# Altium schematic symbol library USBLC6-4SC6.SchLib: 1 symbol
Pins are listed as number, name and electrical type; pins without a type are passive.

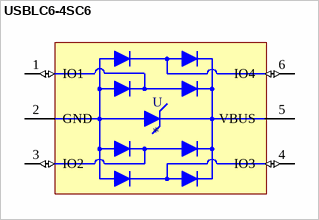
[diagram p0: symbol USBLC6-4SC6]

## USBLC6-4SC6
designator U
17V Clamp 5A _8/20Âµs_ Ipp Tvs Diode Surface Mount SOT-23-6; MF: STMicroelectronics; MP: USBLC6-4SC6; Package: SOT-23-6 STMicroelectronics; Digi-Key_Part_Number: 497-4492-1-ND; SnapEDA_Link: https://www.snapeda.com/parts/USBLC6-4SC6/STMicroelectronics/view-part/229915/?ref=snap; Digi-Key_Purchase_URL: https://www.digikey.com/product-detail/en/stmicroelectronics/USBLC6-4SC6/497-4492-1-ND/725667?utm_source=snapeda&utm_medium=aggregator&utm_campaign=symbol; Value: *
footprint SOT95P280X145-6N
pins: 1 IO1 (io), 2 GND (power), 3 IO2 (io), 4 IO3 (io), 5 VBUS (power), 6 IO4 (io)